# Altium schematic symbol library Studer.SchLib: 2 symbols
Pins are listed as number, name and electrical type; pins without a type are passive.

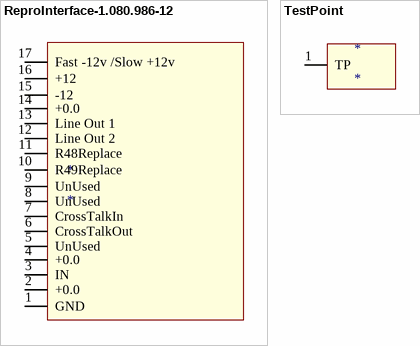
[diagram p0: symbols ReproInterface-1.080.986-12 to TestPoint]

## ReproInterface-1.080.986-12
designator *
Studer A80 RC Reproduce Card 1.080.986-12 Interface
footprint ReproInterface (Studer A80 RC Reproduce Card 1.080.986-12 Interface)
pins: 1 GND, 2 +0.0, 3 IN, 4 +0.0, 5 UnUsed, 6 CrossTalkOut, 7 CrossTalkIn, 8 UnUsed, 9 UnUsed, 10 R49Replace, 11 R48Replace, 12 Line Out 2, 13 Line Out 1, 14 +0.0, 15 -12, 16 +12, 17 Fast -12v /Slow +12v

## TestPoint
designator *
footprint TP-1.5mm (Test Point with 1.5mm hole)
footprint TP-1.0mm (Test Point with 1.0mm hole)
pins: 1 TP